# Altium schematic symbol library RJ45.SchLib: 1 symbol
Pins are listed as number, name and electrical type; pins without a type are passive.

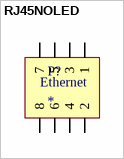
[diagram p0: symbol RJ45NOLED]

## RJ45NOLED
designator P?
Connector RJ45 Ethernet; Digi-Key Part Number: AE10387-ND
footprint RJ45NOLED (Connector RJ45 without led status)
pins: 1, 2, 3, 4, 5, 6, 7, 8
text: Ethernet